# EAGLE library part 61206022021 (library Wurth_Elektronik_Electromechanic_Wire_to_Board_Connectors_rev16a)
WR-BHD 2.54mm Male Box Header With Lever, 60 Pins=>Code : Con_WTB_BHD_2.54_Male_THT_WS_61206022021 <http://katalog.we-online.de/media/thumbs2/eican/thb_Con_WTB_BHD_2.54_Male_THT_WS_6120xx22021_pf2.jpg> Details see: http://katalog.we-online.de/en/em/612_0xx_220_21 Created 2014-06-05, Karrer Zheng 2014 (C) Würth Elektronik
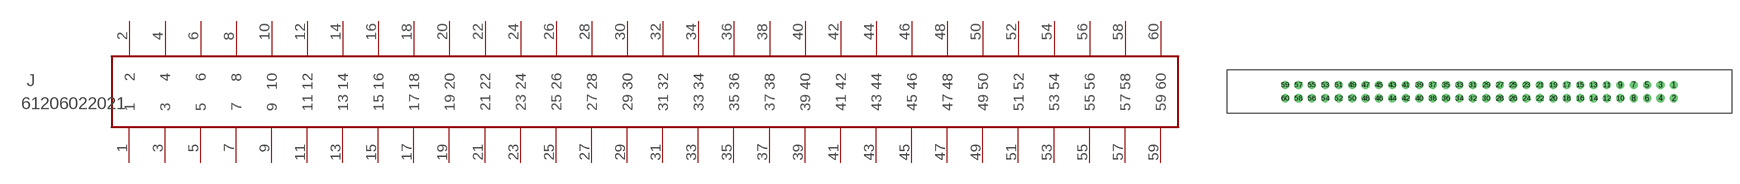
[diagram p205: symbol with the pads of 61206022021; footprint 61206022021]

Designator prefix J

## 61206022021  [61206022021]
1  1  pas
2  2  pas
3  3  pas
4  4  pas
5  5  pas
6  6  pas
7  7  pas
8  8  pas
9  9  pas
10  10  pas
11  11  pas
12  12  pas
13  13  pas
14  14  pas
15  15  pas
16  16  pas
17  17  pas
18  18  pas
19  19  pas
20  20  pas
21  21  pas
22  22  pas
23  23  pas
24  24  pas
25  25  pas
26  26  pas
27  27  pas
28  28  pas
29  29  pas
30  30  pas
31  31  pas
32  32  pas
33  33  pas
34  34  pas
35  35  pas
36  36  pas
37  37  pas
38  38  pas
39  39  pas
40  40  pas
41  41  pas
42  42  pas
43  43  pas
44  44  pas
45  45  pas
46  46  pas
47  47  pas
48  48  pas
49  49  pas
50  50  pas
51  51  pas
52  52  pas
53  53  pas
54  54  pas
55  55  pas
56  56  pas
57  57  pas
58  58  pas
59  59  pas
60  60  pas

## Footprint 61206022021 (pad centres in mm)
WR-BHD 2.54mm Male Box Header With Lever, 60 Pins
drill 1.02: 1 36.83,1.27; 2 36.83,-1.27; 3 34.29,1.27; 4 34.29,-1.27; 5 31.75,1.27; 6 31.75,-1.27; 7 29.21,1.27; 8 29.21,-1.27; 9 26.67,1.27; 10 26.67,-1.27; 11 24.13,1.27; 12 24.13,-1.27; 13 21.59,1.27; 14 21.59,-1.27; 15 19.05,1.27; 16 19.05,-1.27; 17 16.51,1.27; 18 16.51,-1.27; 19 13.97,1.27; 20 13.97,-1.27; 21 11.43,1.27; 22 11.43,-1.27; 23 8.89,1.27; 24 8.89,-1.27; 25 6.35,1.27; 26 6.35,-1.27; 27 3.81,1.27; 28 3.81,-1.27; 29 1.27,1.27; 30 1.27,-1.27; 31 -1.27,1.27; 32 -1.27,-1.27; 33 -3.81,1.27; 34 -3.81,-1.27; 35 -6.35,1.27; 36 -6.35,-1.27; 37 -8.89,1.27; 38 -8.89,-1.27; 39 -11.43,1.27; 40 -11.43,-1.27; 41 -13.97,1.27; 42 -13.97,-1.27; 43 -16.51,1.27; 44 -16.51,-1.27; 45 -19.05,1.27; 46 -19.05,-1.27; 47 -21.59,1.27; 48 -21.59,-1.27; 49 -24.13,1.27; 50 -24.13,-1.27; 51 -26.67,1.27; 52 -26.67,-1.27; 53 -29.21,1.27; 54 -29.21,-1.27; 55 -31.75,1.27; 56 -31.75,-1.27; 57 -34.29,1.27; 58 -34.29,-1.27; 59 -36.83,1.27; 60 -36.83,-1.27